# Altium footprint library PCB_LIB.PcbLib: 86 footprints (part 2 of 6)
Each footprint in its own frame and in the unit in brackets; x right, y up, seen from the top. Pads: shape width x height; smd on the part's side, far side on the other; paste and mask are expansions set on the pad; w line width, h text height; cw(c..) or ccw(c..) is an arc to the next point about the centre after c.
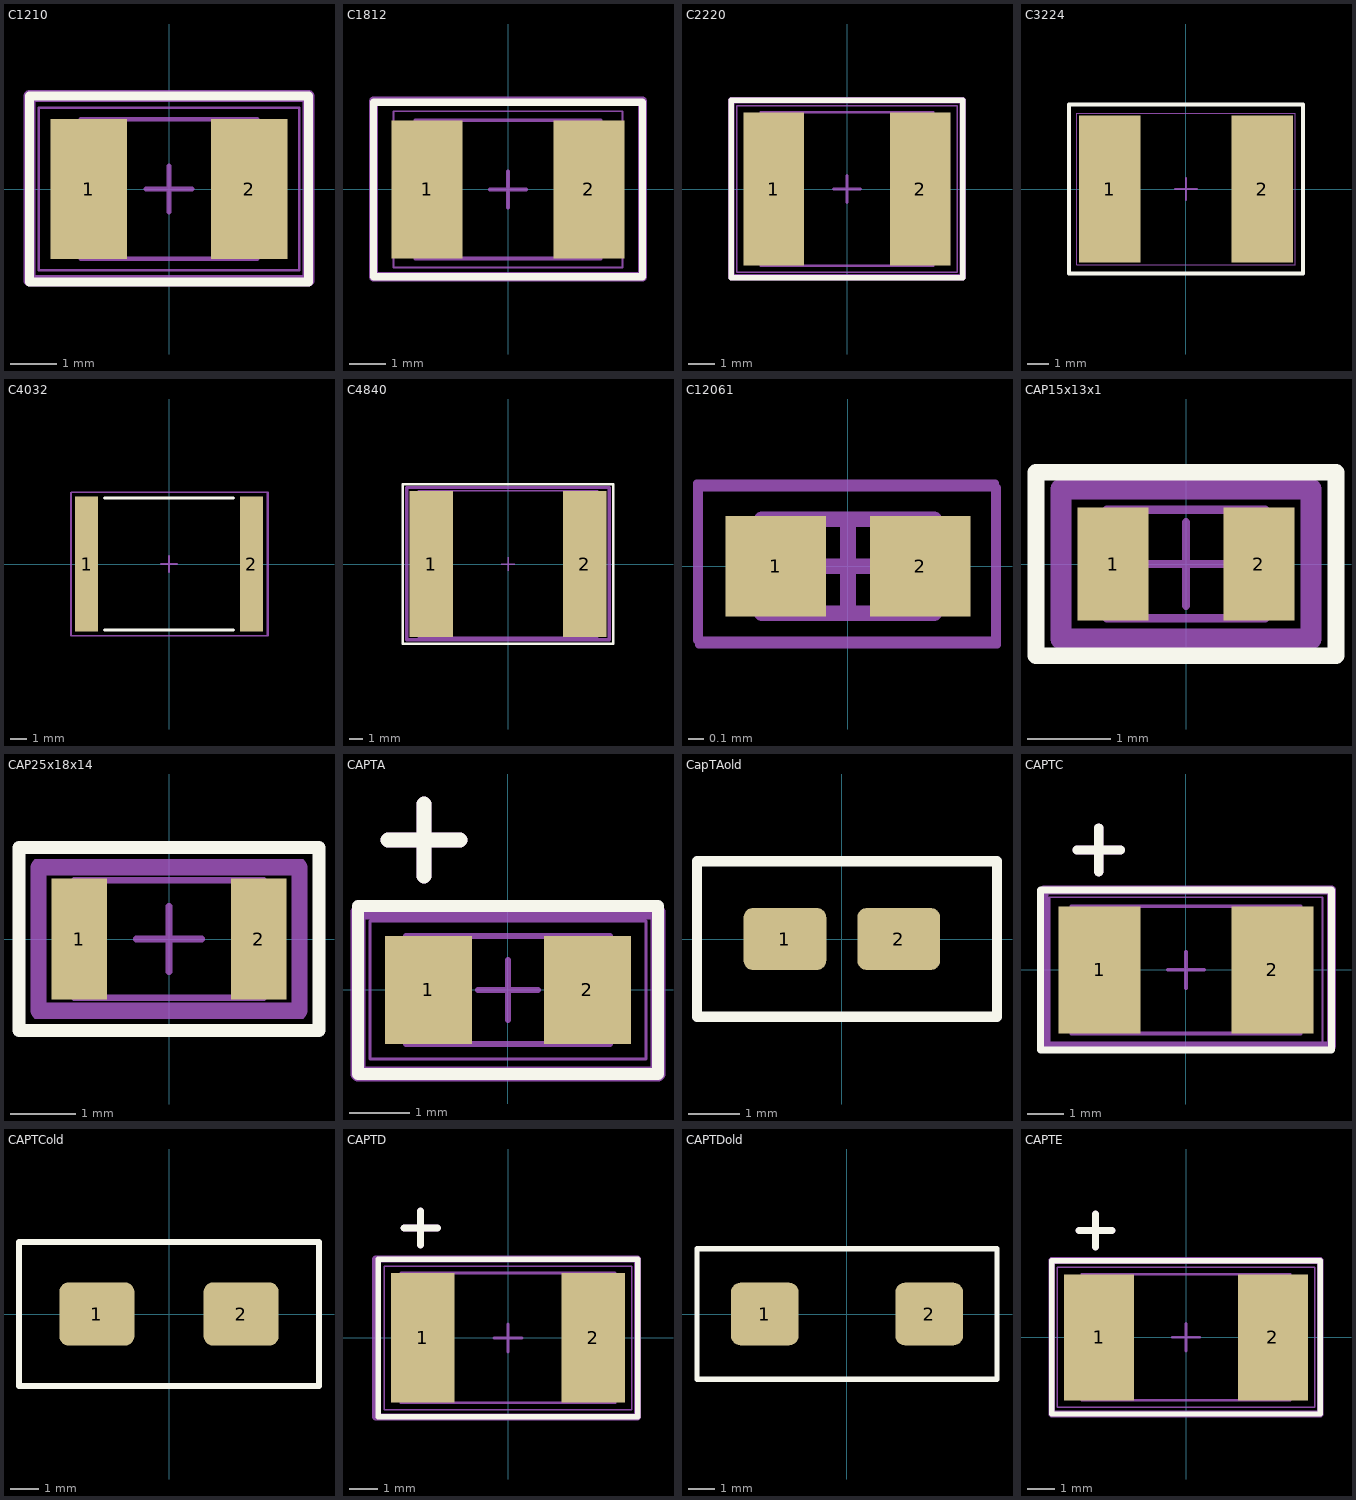
[diagram p1: the footprints below, top view; thin cyan lines are the x and y axes]

## C1210 [mm] "Chip Capacitor, 2-Leads, Body 3,30x2,60mm, IPC Medium Density"
height 1.75
pads (2):
  rect 1.65x3 smd: 1(-1.725,0) 2(1.725,0)
Top Overlay:
  lines w0.2: -3,-2 3,-2 3,2 -3,2 -3,-2
Top Sborka:
  lines w0.25: -3,-1.975 3,-1.975 3,2 -3,2 -3,-1.975
Mechanical 13:
  lines w0.1: -1.9,-1.5 -1.9,1.5 1.9,1.5 1.9,-1.5 -1.9,-1.5
Mechanical 15:
  lines w0.05: -2.8,-1.75 -2.8,1.75 2.8,1.75 2.8,-1.75 -2.8,-1.75
  lines w0.1: -0.5,0 0.5,0 ; 0,-0.5 0,0.5
Top Designator (Mech16):
  text ".Designator" at -5.15,-0.547 h2.5
3D body "C1210.step": height 1.75, standoff 0, extent -1.9,-1.5 1.9,1.5

## C1812 [mm] "Chip Capacitor, 2-Leads, Body 4,60x3,30mm, IPC Medium Density"
height 1.75
pads (2):
  rect 1.95x3.8 smd: 1(-2.225,0) 2(2.225,0)
Top Overlay:
  lines w0.2: -3.7,-2.4 3.7,-2.4 3.7,2.4 -3.7,2.4 -3.7,-2.4
Top Sborka:
  lines w0.25: -3.7,-2.4 3.7,-2.4 3.7,2.425 -3.7,2.425 -3.7,-2.4
Mechanical 13:
  lines w0.1: -2.55,-1.9 2.55,-1.9 2.55,1.9 -2.55,1.9 -2.55,-1.9
Mechanical 15:
  lines w0.05: -3.15,-2.15 3.15,-2.15 3.15,2.15 -3.15,2.15 -3.15,-2.15
  lines w0.1: -0.5,0 0.5,0 ; 0,-0.5 0,0.5
Top Designator (Mech16):
  text ".Designator" at -5.15,-0.547 h2.5
3D body "C1812.step": height 1.75, standoff 0, extent -2.55,-1.9 2.55,1.9

## C2220 [mm] "Chip Capacitor, 2-Leads, Body 5,80x5,15mm, IPC Medium Density"
height 1.75
pads (2):
  rect 2.25x5.7 smd: 1(-2.725,0) 2(2.725,0)
Top Overlay:
  lines w0.2: -4.3,-3.3 4.3,-3.3 4.3,3.3 -4.3,3.3 -4.3,-3.3
Top Sborka:
  lines w0.25: -4.3,-3.275 4.3,-3.275 4.3,3.3 -4.3,3.3 -4.3,-3.275
Mechanical 13:
  lines w0.1: -3.2,-2.85 3.2,-2.85 3.2,2.85 -3.2,2.85 -3.2,-2.85
Mechanical 15:
  lines w0.05: -4.1,-3.1 4.1,-3.1 4.1,3.1 -4.1,3.1 -4.1,-3.1
  lines w0.1: -0.5,0 0.5,0 ; 0,-0.5 0,0.5
Top Designator (Mech16):
  text ".Designator" at -5.15,-0.547 h2.5
3D body "C2220.step": height 1.75, standoff 0, extent -3.2,-2.85 3.2,2.85

## C3224 [mm] "Chip Capacitor, 2-Leads, Body 8,20x6,20mm, IPC High Density"
height 2
pads (2):
  rect 2.85x6.8 smd: 1(-3.525,0) 2(3.525,0)
Top Overlay:
  lines w0.2: -5.4,-3.9 5.4,-3.9 5.4,3.9 -5.4,3.9 -5.4,-3.9
Top Sborka:
  lines w0.1: -5.4,-3.9 -5.4,3.9 5.4,3.9 5.4,-3.9 -5.4,-3.9
Mechanical 15:
  lines w0.05: -5.05,-3.5 5.05,-3.5 5.05,3.5 -5.05,3.5 -5.05,-3.5
  lines w0.1: -0.5,0 0.5,0 ; 0,-0.5 0,0.5
Top Designator (Mech16):
  text ".Designator" at -5.15,-0.547 h2.5
3D body "R3224.step": height 2, standoff 0, extent -4.45,-3.4 4.45,3.4

## C4032 [mm] "Chip Capacitor, 2-Leads, Body 10,60x8,20mm, IPC Medium Density"
height 3.2
pads (2):
  rect 1.45x8.4 smd: 1(-5.125,0) 2(5.125,0)
Top Overlay:
  lines w0.2: -4,-4.1 4,-4.1 ; -4,4.1 4,4.1
Top Sborka:
  lines w0.1: -6.075,-4.45 6.175,-4.45 6.175,4.45 -6.075,4.45 -6.075,-4.45
Mechanical 15:
  lines w0.05: -6.1,-4.45 6.1,-4.45 6.1,4.45 -6.1,4.45 -6.1,-4.45
  lines w0.1: -0.5,0 0.5,0 ; 0,-0.5 0,0.5
Top Designator (Mech16):
  text ".Designator" at -5.15,-0.547 h2.5
3D body "C4032.step": height 3.2, standoff 0, extent -5.5,-4.2 5.5,4.2

## C4840 [mm] "Chip Capacitor, 2-Leads, Body 12,40x10,20mm, IPC Medium Density"
height 1.75
pads (2):
  rect 3.25x11 smd: 1(-5.775,0) 2(5.775,0)
Top Overlay:
  lines w0.2: -7.9,-6 7.9,-6 7.9,6 -7.9,6 -7.9,-6
Top Sborka:
  lines w0.25: -7.6,-5.7 7.6,-5.7 7.6,5.75 -7.6,5.75 -7.6,-5.7
Mechanical 13:
  lines w0.1: -6.75,-5.5 -6.75,5.5 6.75,5.5 6.75,-5.5 -6.75,-5.5
Mechanical 15:
  lines w0.05: -7.6,-5.75 -7.6,5.75 7.6,5.75 7.6,-5.75 -7.6,-5.75
  lines w0.1: -0.5,0 0.5,0 ; 0,-0.5 0,0.5
Top Designator (Mech16):
  text ".Designator" at -5.15,-0.547 h2.5
3D body "C4840.step": height 1.75, standoff 0, extent -6.75,-5.5 6.75,5.5

## C12061 [mm] "Chip Capacitor, 2-Leads, Body 1,00x0,50mm, IPC Medium Density"
height 0.65
pads (2):
  rect 0.64x0.64 smd: 1(-0.46,0) 2(0.46,0)
Top Sborka:
  lines w0.05: -0.962,-0.471 0.938,-0.471 0.938,0.529 -0.962,0.529 -0.962,-0.471
Mechanical 13:
  lines w0.1: -0.55,-0.3 0.55,-0.3 0.55,0.3 -0.55,0.3 -0.55,-0.3
Mechanical 15:
  lines w0.05: -0.95,-0.5 0.95,-0.5 0.95,0.5 -0.95,0.5 -0.95,-0.5
  lines w0.1: -0.3,0 0.3,0 ; 0,-0.3 0,0.3
Top Designator (Mech16):
  text ".Designator" at -5.156,-0.533 h2.5
3D body "C12061.step": height 0.65, standoff 0, extent -0.55,-0.3 0.55,0.3

## CAP15x13x1 [mm] "Chip Capacitor, 2-Leads, Body 1,60x1,18mm, IPC Medium Density"
height 1
pads (2):
  rect 0.85x1.35 smd: 1(-0.875,0) 2(0.875,0)
Top Overlay:
  lines w0.2: -1.8,-1.1 1.8,-1.1 1.8,1.1 -1.8,1.1 -1.8,-1.1
Top Sborka:
  lines w0.25: -1.5,-0.9 1.5,-0.9 1.5,0.9 -1.5,0.9 -1.5,-0.9
Mechanical 13:
  lines w0.1: -0.95,-0.65 -0.95,0.65 0.95,0.65 0.95,-0.65 -0.95,-0.65
Mechanical 15:
  lines w0.05: -1.55,-0.95 -1.55,0.95 1.55,0.95 1.55,-0.95 -1.55,-0.95
  lines w0.1: -0.5,0 0.5,0 ; 0,-0.5 0,0.5
Top Designator (Mech16):
  text ".Designator" at -5.15,-0.547 h2.5
3D body "CAP1.5x1.3x1.step": height 1, standoff 0, extent -0.95,-0.65 0.95,0.65

## CAP25x18x14 [mm] "Chip Capacitor, 2-Leads, Body 2,60x1,65mm, IPC Medium Density"
height 1.4
pads (2):
  rect 0.85x1.85 smd: 1(-1.375,0) 2(1.375,0)
Top Overlay:
  lines w0.2: -2.3,-1.4 2.3,-1.4 2.3,1.4 -2.3,1.4 -2.3,-1.4
Top Sborka:
  lines w0.25: -2,-1.1 2,-1.1 2,1.1 -2,1.1 -2,-1.1
Mechanical 13:
  lines w0.1: -1.45,-0.9 1.45,-0.9 1.45,0.9 -1.45,0.9 -1.45,-0.9
Mechanical 15:
  lines w0.05: -2.05,-1.2 2.05,-1.2 2.05,1.2 -2.05,1.2 -2.05,-1.2
  lines w0.1: -0.5,0 0.5,0 ; 0,-0.5 0,0.5
Top Designator (Mech16):
  text ".Designator" at -5.15,-0.547 h2.5
3D body "CAP2.5x1.8x1.4.step": height 1.4, standoff 0, extent -1.45,-0.9 1.45,0.9

## CAPTA [mm] "Chip Capacitor, 2-Leads, Body 3,20x1,60mm, IPC Medium Density"
height 1.8
pads (2):
  rect 1.45x1.8 smd: 1(-1.325,0) 2(1.325,0)
Top Overlay:
  lines w0.2: -2.5,-1.4 2.5,-1.4 2.5,1.4 -2.5,1.4 -2.5,-1.4
  lines w0.25: -2,2.5 -0.8,2.5 ; -1.4,1.9 -1.4,3.1
Top Sborka:
  lines w0.25: -2,2.5 -0.8,2.5 ; -1.4,1.9 -1.4,3.1 ; -2.5,-1.4 2.5,-1.4 2.5,1.3 -2.5,1.3 -2.5,-1.4
Mechanical 13:
  lines w0.1: -1.7,-0.9 -1.7,0.9 1.7,0.9 1.7,-0.9 -1.7,-0.9
Mechanical 15:
  lines w0.05: -2.3,-1.15 -2.3,1.15 2.3,1.15 2.3,-1.15 -2.3,-1.15
  lines w0.1: -0.5,0 0.5,0 ; 0,-0.5 0,0.5
Top Designator (Mech16):
  text ".Designator" at -5.15,-0.547 h2.5
3D body "CAPTAnew.step": height 1.8, standoff 0, extent -1.7,-0.9 1.7,0.9

## CapTAold [mm]
pads (2):
  rrect30% 1.6x1.2 smd: 1(-1.1,0) 2(1.1,0)
Top Overlay:
  lines w0.2: -2.8,-1.5 -2.8,0 -2.8,1.5 3,1.5 3,-1.5 -2.8,-1.5
Top Designator (Mech16):
  text ".Designator" at -5.05,-0.547 h2.5

## CAPTC [mm] "Chip Capacitor, 2-Leads, Body 6,00x3,20mm, IPC Medium Density"
height 2.8
pads (2):
  rect 2.25x3.5 smd: 1(-2.375,0) 2(2.375,0)
Top Overlay:
  lines w0.2: -4,-2.2 4,-2.2 4,2.2 -4,2.2 -4,-2.2
  lines w0.25: -3,3.3 -1.8,3.3 ; -2.4,2.7 -2.4,3.9
Top Sborka:
  lines w0.25: -3,3.3 -1.8,3.3 ; -2.4,2.7 -2.4,3.9 ; -3.9,-2.1 4,-2.1 4,2.2 -3.9,2.2 -3.9,-2.1
Mechanical 13:
  lines w0.1: -3.15,-1.75 -3.15,1.75 3.15,1.75 3.15,-1.75 -3.15,-1.75
Mechanical 15:
  lines w0.05: -3.75,-2 -3.75,2 3.75,2 3.75,-2 -3.75,-2
  lines w0.1: -0.5,0 0.5,0 ; 0,-0.5 0,0.5
Top Designator (Mech16):
  text ".Designator" at -5.15,-0.547 h2.5
3D body "CAPTC.step": height 2.8, standoff 0, extent -3.15,-1.75 3.15,1.75

## CAPTCold [mm]
pads (2):
  rrect30% 2.6x2.2 smd: 1(-2.5,0) 2(2.5,0)
Top Overlay:
  lines w0.2: -5.2,-2.5 5.2,-2.5 5.2,2.5 -5.2,2.5 -5.2,0 -5.2,-2.5
Top Designator (Mech16):
  text ".Designator" at -5.15,-0.547 h2.5

## CAPTD [mm] "Chip Capacitor, 2-Leads, Body 7,30x4,30mm, IPC Medium Density"
height 3.2
pads (2):
  rect 2.25x4.6 smd: 1(-3.025,0) 2(3.025,0)
Top Overlay:
  lines w0.2: -4.6,-2.8 4.6,-2.8 4.6,2.8 -4.6,2.8 -4.6,-2.8
  lines w0.25: -3.7,3.9 -2.5,3.9 ; -3.1,3.3 -3.1,4.5
Top Sborka:
  lines w0.25: -3.7,3.9 -2.5,3.9 ; -3.1,3.3 -3.1,4.5 ; -4.7,-2.8 4.6,-2.8 4.6,2.8 -4.7,2.8 -4.7,-2.8
Mechanical 13:
  lines w0.1: -3.8,-2.3 -3.8,2.3 3.8,2.3 3.8,-2.3 -3.8,-2.3
Mechanical 15:
  lines w0.05: -4.4,-2.55 -4.4,2.55 4.4,2.55 4.4,-2.55 -4.4,-2.55
  lines w0.1: -0.5,0 0.5,0 ; 0,-0.5 0,0.5
Top Designator (Mech16):
  text ".Designator" at -5.15,-0.547 h2.5
3D body "CAPTD.step": height 3.2, standoff 0, extent -3.8,-2.3 3.8,2.3

## CAPTDold [mm]
pads (2):
  rrect30% 2.6x2.4 smd: 1(-3.15,0) 2(3.15,0)
Top Overlay:
  lines w0.2: -5.75,-2.5 -5.75,0 -5.75,2.5 5.75,2.5 5.75,-2.5 -5.75,-2.5
Top Designator (Mech16):
  text ".Designator" at -5.15,-0.547 h2.5

## CAPTE [mm] "Chip Capacitor, 2-Leads, Body 7,30x4,30mm, IPC Medium Density"
height 4.4
pads (2):
  rect 2.55x4.6 smd: 1(-3.175,0) 2(3.175,0)
Top Overlay:
  lines w0.2: -4.9,-2.8 4.9,-2.8 4.9,2.8 -4.9,2.8 -4.9,-2.8
  lines w0.25: -3.9,3.9 -2.7,3.9 ; -3.3,3.3 -3.3,4.5
Top Sborka:
  lines w0.25: -3.9,3.9 -2.7,3.9 ; -3.3,3.3 -3.3,4.5 ; -4.9,-2.8 4.9,-2.8 4.9,2.8 -4.9,2.8 -4.9,-2.8
Mechanical 13:
  lines w0.1: -3.8,-2.3 3.8,-2.3 3.8,2.3 -3.8,2.3 -3.8,-2.3
Mechanical 15:
  lines w0.05: -4.7,-2.55 4.7,-2.55 4.7,2.55 -4.7,2.55 -4.7,-2.55
  lines w0.1: -0.5,0 0.5,0 ; 0,-0.5 0,0.5
Top Designator (Mech16):
  text ".Designator" at -5.15,-0.547 h2.5
3D body "CAPTE.step": height 4.4, standoff 0, extent -3.8,-2.3 3.8,2.3